# Altium integrated library Silicon Labs Automotive & Industrial MCUs.IntLib: 240 symbols (part 5 of 8)
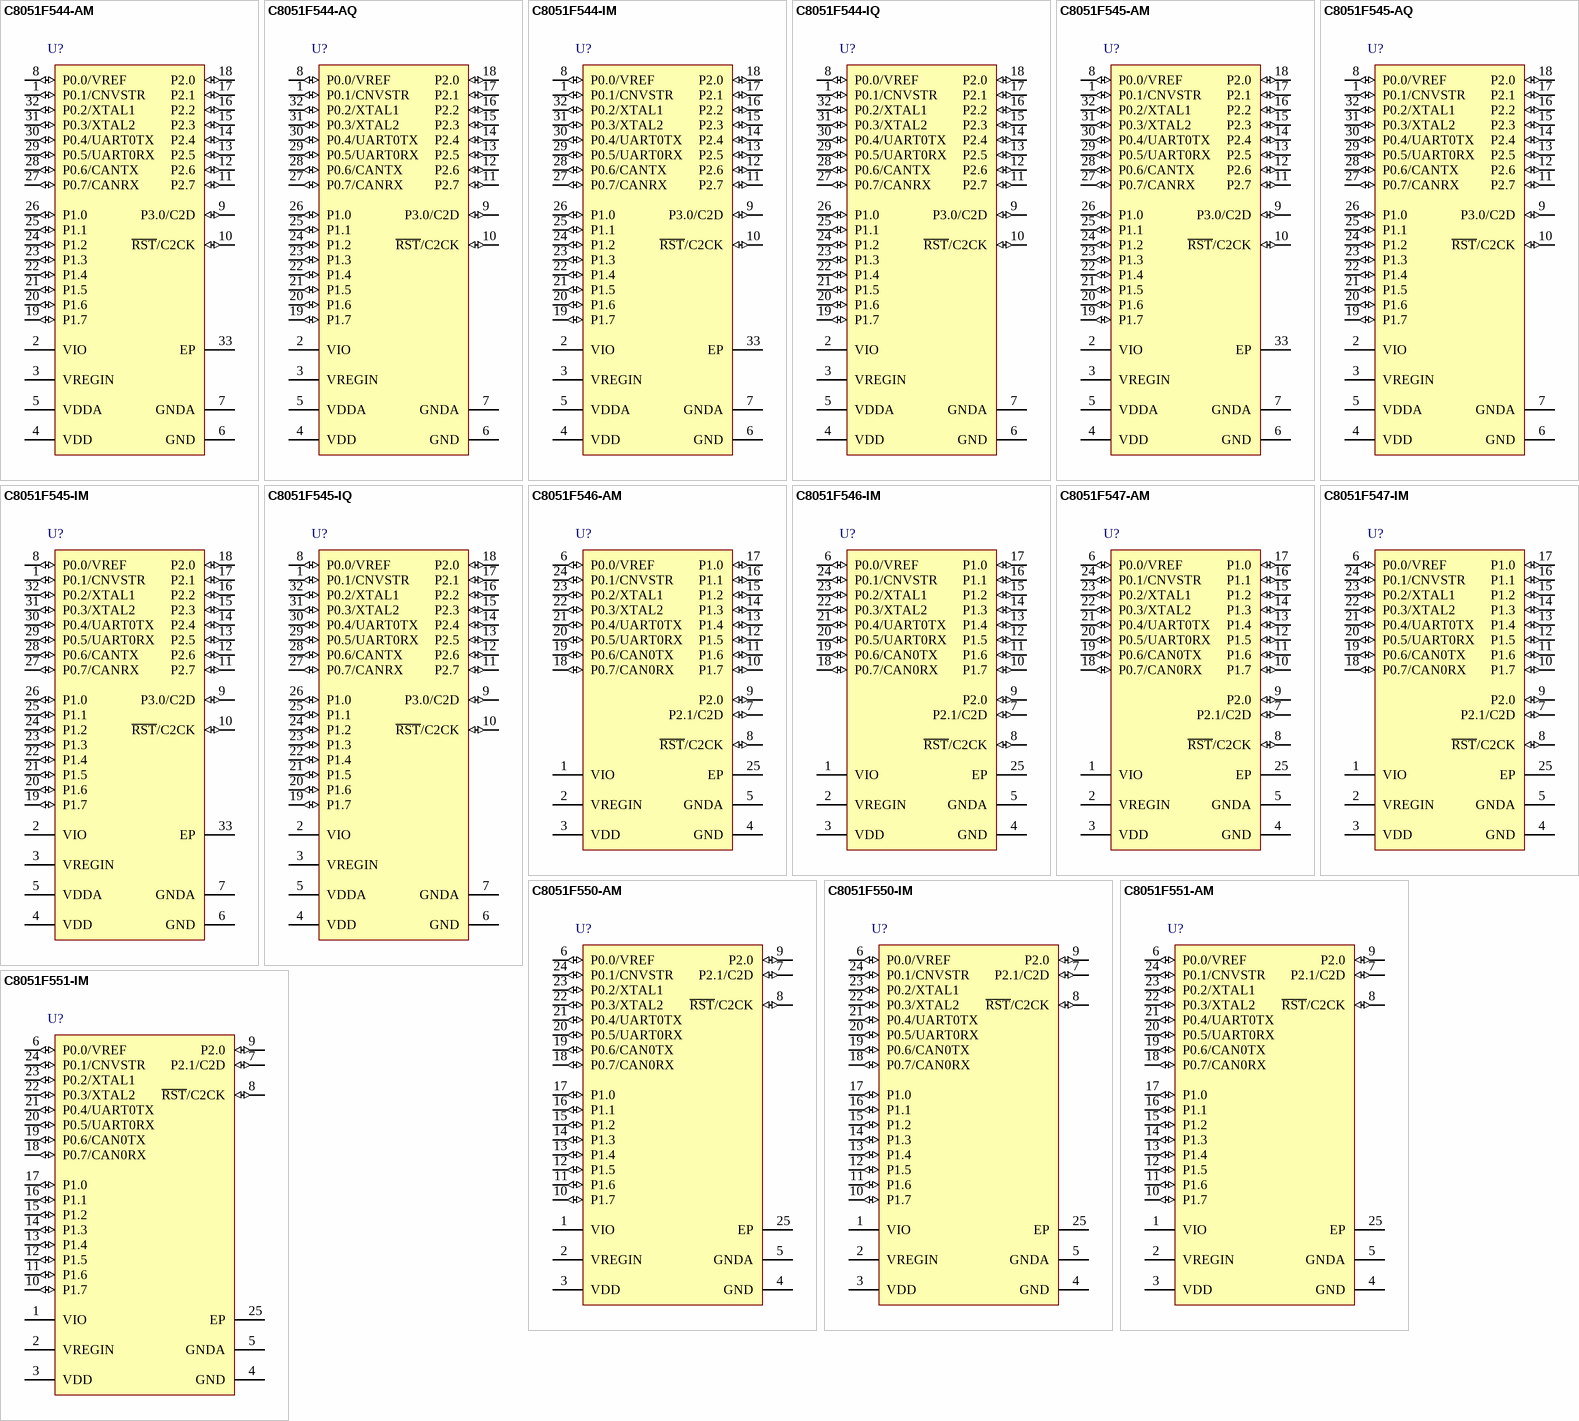
[diagram p17: symbols C8051F544-AM to C8051F551-IM]

## C8051F545-AQ
designator U?
Mixed Signal 8KB Flash ISP MCU, 1280B RAM, 25 I/Os, 12-Bit 25 Channel ADC, SPI, 32-Pin QFP, Automotive Grade; Manufacturer: Silicon Labs; PartNumber: C8051F545-AQ; DatasheetVersion: rev1.1, Apr-2011; PackageVersion: 2007; PackageReference: LQFP-32; PackageDescription: 32-Pin Thin Quad Flat Pack, 7 x 7 x 1.4 mm Body, 0.8 mm Pitch; ComponentLink1Description: Manufacturer URL; ComponentLink1URL: http://www.silabs.com; ComponentLink2Description: Datasheet; ComponentLink2URL: http://www.silabs.com/Support%20Documents/TechnicalDocs/C8051F54x.pdf
footprint LQFP-32_N (Thin QFP, 32-Leads, Body 7x7mm, Pitch 0.8mm, IPC Medium Density)
footprint LQFP-32_L (Thin QFP, 32-Leads, Body 7x7mm, Pitch 0.8mm, IPC High Density)
footprint LQFP-32_M (Thin QFP, 32-Leads, Body 7x7mm, Pitch 0.8mm, IPC Low Density)
pins: 1 P0.1/CNVSTR (io), 2 VIO (power), 3 VREGIN (power), 4 VDD (power), 5 VDDA (power), 6 GND (power), 7 GNDA (power), 8 P0.0/VREF (io), 9 P3.0/C2D (io), 10 ~{RST}/C2CK (io), 11 P2.7 (io), 12 P2.6 (io), 13 P2.5 (io), 14 P2.4 (io), 15 P2.3 (io), 16 P2.2 (io), 17 P2.1 (io), 18 P2.0 (io), 19 P1.7 (io), 20 P1.6 (io), 21 P1.5 (io), 22 P1.4 (io), 23 P1.3 (io), 24 P1.2 (io), 25 P1.1 (io), 26 P1.0 (io), 27 P0.7/CANRX (io), 28 P0.6/CANTX (io), 29 P0.5/UART0RX (io), 30 P0.4/UART0TX (io), 31 P0.3/XTAL2 (io), 32 P0.2/XTAL1 (io)

## C8051F545-IM
designator U?
Mixed Signal 8KB Flash ISP MCU, 1280B RAM, 25 I/Os, 12-Bit 25 Channel ADC, I2C, 32-Pin QFN, Industrial Grade; Manufacturer: Silicon Labs; PartNumber: C8051F545-IM; DatasheetVersion: rev1.1, Apr-2011; PackageVersion: 2011; PackageReference: QFN-32; PackageDescription: 32-Pin Quad Flat No-Lead, 5 x 5 x 0.9 mm Body, 0.5 mm Pitch; Supplier 1: Digi-Key; Supplier Part Number 1: 336-1679-5-ND; Supplier 2: Mouser; Supplier Part Number 2: 634-C8051F545-IM; Code_JEDEC: MO-220-VHHD; ComponentLink1Description: Manufacturer URL; ComponentLink1URL: http://www.silabs.com; ComponentLink2Description: Datasheet; ComponentLink2URL: http://www.silabs.com/Support%20Documents/TechnicalDocs/C8051F54x.pdf
footprint QFN-32_V (QFN, 32-Leads, Body 5x5mm, Pitch 0.5mm, Thermal Pad 3.3x3.3mm, Silicon Labs Recommended)
pins: 1 P0.1/CNVSTR (io), 2 VIO (power), 3 VREGIN (power), 4 VDD (power), 5 VDDA (power), 6 GND (power), 7 GNDA (power), 8 P0.0/VREF (io), 9 P3.0/C2D (io), 10 ~{RST}/C2CK (io), 11 P2.7 (io), 12 P2.6 (io), 13 P2.5 (io), 14 P2.4 (io), 15 P2.3 (io), 16 P2.2 (io), 17 P2.1 (io), 18 P2.0 (io), 19 P1.7 (io), 20 P1.6 (io), 21 P1.5 (io), 22 P1.4 (io), 23 P1.3 (io), 24 P1.2 (io), 25 P1.1 (io), 26 P1.0 (io), 27 P0.7/CANRX (io), 28 P0.6/CANTX (io), 29 P0.5/UART0RX (io), 30 P0.4/UART0TX (io), 31 P0.3/XTAL2 (io), 32 P0.2/XTAL1 (io), 33 EP (power)

## C8051F545-IQ
designator U?
Mixed Signal 8KB Flash ISP MCU, 1280B RAM, 25 I/Os, 12-Bit 25 Channel ADC, I2C, 32-Pin QFP, Industrial Grade; Manufacturer: Silicon Labs; PartNumber: C8051F545-IQ; DatasheetVersion: rev1.1, Apr-2011; PackageVersion: 2007; PackageReference: LQFP-32; PackageDescription: 32-Pin Thin Quad Flat Pack, 7 x 7 x 1.4 mm Body, 0.8 mm Pitch; Supplier 1: Digi-Key; Supplier Part Number 1: 336-1680-ND; Supplier 2: Mouser; Supplier Part Number 2: 634-C8051F545-IQ; ComponentLink1Description: Manufacturer URL; ComponentLink1URL: http://www.silabs.com; ComponentLink2Description: Datasheet; ComponentLink2URL: http://www.silabs.com/Support%20Documents/TechnicalDocs/C8051F54x.pdf
footprint LQFP-32_N (Thin QFP, 32-Leads, Body 7x7mm, Pitch 0.8mm, IPC Medium Density)
footprint LQFP-32_L (Thin QFP, 32-Leads, Body 7x7mm, Pitch 0.8mm, IPC High Density)
footprint LQFP-32_M (Thin QFP, 32-Leads, Body 7x7mm, Pitch 0.8mm, IPC Low Density)
pins: 1 P0.1/CNVSTR (io), 2 VIO (power), 3 VREGIN (power), 4 VDD (power), 5 VDDA (power), 6 GND (power), 7 GNDA (power), 8 P0.0/VREF (io), 9 P3.0/C2D (io), 10 ~{RST}/C2CK (io), 11 P2.7 (io), 12 P2.6 (io), 13 P2.5 (io), 14 P2.4 (io), 15 P2.3 (io), 16 P2.2 (io), 17 P2.1 (io), 18 P2.0 (io), 19 P1.7 (io), 20 P1.6 (io), 21 P1.5 (io), 22 P1.4 (io), 23 P1.3 (io), 24 P1.2 (io), 25 P1.1 (io), 26 P1.0 (io), 27 P0.7/CANRX (io), 28 P0.6/CANTX (io), 29 P0.5/UART0RX (io), 30 P0.4/UART0TX (io), 31 P0.3/XTAL2 (io), 32 P0.2/XTAL1 (io)

## C8051F546-AM
designator U?
Mixed Signal 8KB Flash ISP MCU, 1280B RAM, 18 I/Os, 12-Bit 18 Channel ADC, LIN 2.1, 24-Pin QFN, Automotive Grade; Manufacturer: Silicon Labs; PartNumber: C8051F546-AM; DatasheetVersion: rev1.1, Apr-2011; PackageVersion: 2011; PackageReference: QFN-24; PackageDescription: 24-Pin Quad Flat No-Lead, 4 x 4 x 0.75 mm Body, 0.5 mm Pitch; Code_JEDEC: MO-220-WGGD; ComponentLink1Description: Manufacturer URL; ComponentLink1URL: http://www.silabs.com; ComponentLink2Description: Datasheet; ComponentLink2URL: http://www.silabs.com/Support%20Documents/TechnicalDocs/C8051F54x.pdf
footprint QFN-24_V (QFN, 24-Leads, Body 4x4mm, Pitch 0.5mm, Thermal Pad 2.75x2.75mm, Silicon Labs Recommended)
pins: 1 VIO (power), 2 VREGIN (power), 3 VDD (power), 4 GND (power), 5 GNDA (power), 6 P0.0/VREF (io), 7 P2.1/C2D (io), 8 ~{RST}/C2CK (io), 9 P2.0 (io), 10 P1.7 (io), 11 P1.6 (io), 12 P1.5 (io), 13 P1.4 (io), 14 P1.3 (io), 15 P1.2 (io), 16 P1.1 (io), 17 P1.0 (io), 18 P0.7/CAN0RX (io), 19 P0.6/CAN0TX (io), 20 P0.5/UART0RX (io), 21 P0.4/UART0TX (io), 22 P0.3/XTAL2 (io), 23 P0.2/XTAL1 (io), 24 P0.1/CNVSTR (io), 25 EP (power)

## C8051F546-IM
designator U?
Mixed Signal 8KB Flash ISP MCU, 1280B RAM, 18 I/Os, 12-Bit 18 Channel ADC, I2C, LIN 2.1, 24-Pin QFN, Industrial Grade; Manufacturer: Silicon Labs; PartNumber: C8051F546-IM; DatasheetVersion: rev1.1, Apr-2011; PackageVersion: 2011; PackageReference: QFN-24; PackageDescription: 24-Pin Quad Flat No-Lead, 4 x 4 x 0.75 mm Body, 0.5 mm Pitch; Supplier 1: Digi-Key; Supplier Part Number 1: 336-1681-5-ND; Supplier 2: Mouser; Supplier Part Number 2: 634-C8051F546-IM; Code_JEDEC: MO-220-WGGD; ComponentLink1Description: Manufacturer URL; ComponentLink1URL: http://www.silabs.com; ComponentLink2Description: Datasheet; ComponentLink2URL: http://www.silabs.com/Support%20Documents/TechnicalDocs/C8051F54x.pdf
footprint QFN-24_V (QFN, 24-Leads, Body 4x4mm, Pitch 0.5mm, Thermal Pad 2.75x2.75mm, Silicon Labs Recommended)
pins: 1 VIO (power), 2 VREGIN (power), 3 VDD (power), 4 GND (power), 5 GNDA (power), 6 P0.0/VREF (io), 7 P2.1/C2D (io), 8 ~{RST}/C2CK (io), 9 P2.0 (io), 10 P1.7 (io), 11 P1.6 (io), 12 P1.5 (io), 13 P1.4 (io), 14 P1.3 (io), 15 P1.2 (io), 16 P1.1 (io), 17 P1.0 (io), 18 P0.7/CAN0RX (io), 19 P0.6/CAN0TX (io), 20 P0.5/UART0RX (io), 21 P0.4/UART0TX (io), 22 P0.3/XTAL2 (io), 23 P0.2/XTAL1 (io), 24 P0.1/CNVSTR (io), 25 EP (power)

## C8051F547-AM
designator U?
Mixed Signal 8KB Flash ISP MCU, 1280B RAM, 18 I/Os, 12-Bit 18 Channel ADC, SPI, 24-Pin QFN, Automotive Grade; Manufacturer: Silicon Labs; PartNumber: C8051F547-AM; DatasheetVersion: rev1.1, Apr-2011; PackageVersion: 2011; PackageReference: QFN-24; PackageDescription: 24-Pin Quad Flat No-Lead, 4 x 4 x 0.75 mm Body, 0.5 mm Pitch; Code_JEDEC: MO-220-WGGD; ComponentLink1Description: Manufacturer URL; ComponentLink1URL: http://www.silabs.com; ComponentLink2Description: Datasheet; ComponentLink2URL: http://www.silabs.com/Support%20Documents/TechnicalDocs/C8051F54x.pdf
footprint QFN-24_V (QFN, 24-Leads, Body 4x4mm, Pitch 0.5mm, Thermal Pad 2.75x2.75mm, Silicon Labs Recommended)
pins: 1 VIO (power), 2 VREGIN (power), 3 VDD (power), 4 GND (power), 5 GNDA (power), 6 P0.0/VREF (io), 7 P2.1/C2D (io), 8 ~{RST}/C2CK (io), 9 P2.0 (io), 10 P1.7 (io), 11 P1.6 (io), 12 P1.5 (io), 13 P1.4 (io), 14 P1.3 (io), 15 P1.2 (io), 16 P1.1 (io), 17 P1.0 (io), 18 P0.7/CAN0RX (io), 19 P0.6/CAN0TX (io), 20 P0.5/UART0RX (io), 21 P0.4/UART0TX (io), 22 P0.3/XTAL2 (io), 23 P0.2/XTAL1 (io), 24 P0.1/CNVSTR (io), 25 EP (power)

## C8051F547-IM
designator U?
Mixed Signal 8KB Flash ISP MCU, 1280B RAM, 18 I/Os, 12-Bit 18 Channel ADC, I2C, 24-Pin QFN, Industrial Grade; Manufacturer: Silicon Labs; PartNumber: C8051F547-IM; DatasheetVersion: rev1.1, Apr-2011; PackageVersion: 2011; PackageReference: QFN-24; PackageDescription: 24-Pin Quad Flat No-Lead, 4 x 4 x 0.75 mm Body, 0.5 mm Pitch; Supplier 1: Digi-Key; Supplier Part Number 1: 336-1682-5-ND; Supplier 2: Mouser; Supplier Part Number 2: 634-C8051F547-IM; Code_JEDEC: MO-220-WGGD; ComponentLink1Description: Manufacturer URL; ComponentLink1URL: http://www.silabs.com; ComponentLink2Description: Datasheet; ComponentLink2URL: http://www.silabs.com/Support%20Documents/TechnicalDocs/C8051F54x.pdf
footprint QFN-24_V (QFN, 24-Leads, Body 4x4mm, Pitch 0.5mm, Thermal Pad 2.75x2.75mm, Silicon Labs Recommended)
pins: 1 VIO (power), 2 VREGIN (power), 3 VDD (power), 4 GND (power), 5 GNDA (power), 6 P0.0/VREF (io), 7 P2.1/C2D (io), 8 ~{RST}/C2CK (io), 9 P2.0 (io), 10 P1.7 (io), 11 P1.6 (io), 12 P1.5 (io), 13 P1.4 (io), 14 P1.3 (io), 15 P1.2 (io), 16 P1.1 (io), 17 P1.0 (io), 18 P0.7/CAN0RX (io), 19 P0.6/CAN0TX (io), 20 P0.5/UART0RX (io), 21 P0.4/UART0TX (io), 22 P0.3/XTAL2 (io), 23 P0.2/XTAL1 (io), 24 P0.1/CNVSTR (io), 25 EP (power)

## C8051F550-AM
designator U?
Mixed Signal 32KB Flash ISP MCU, 2304B RAM, 18 I/Os, 12-Bit 18 Channel ADC, CAN 2.0, LIN 2.1, 24-Pin QFN, Automotive Grade; Manufacturer: Silicon Labs; PartNumber: C8051F550-AM; DatasheetVersion: rev1.1, 2011; PackageVersion: 2011; PackageReference: QFN-24; PackageDescription: 24-Pin Quad Flat No-Lead, 4 x 4 x 0.75 mm Body, 0.5 mm Pitch; Code_JEDEC: MO-220-WGGD; ComponentLink1Description: Manufacturer URL; ComponentLink1URL: http://www.silabs.com; ComponentLink2Description: Datasheet; ComponentLink2URL: http://www.silabs.com/Support%20Documents/TechnicalDocs/C8051F55x-F56x-F57x.pdf
footprint QFN-24_V (QFN, 24-Leads, Body 4x4mm, Pitch 0.5mm, Thermal Pad 2.75x2.75mm, Silicon Labs Recommended)
pins: 1 VIO (power), 2 VREGIN (power), 3 VDD (power), 4 GND (power), 5 GNDA (power), 6 P0.0/VREF (io), 7 P2.1/C2D (io), 8 ~{RST}/C2CK (io), 9 P2.0 (io), 10 P1.7 (io), 11 P1.6 (io), 12 P1.5 (io), 13 P1.4 (io), 14 P1.3 (io), 15 P1.2 (io), 16 P1.1 (io), 17 P1.0 (io), 18 P0.7/CAN0RX (io), 19 P0.6/CAN0TX (io), 20 P0.5/UART0RX (io), 21 P0.4/UART0TX (io), 22 P0.3/XTAL2 (io), 23 P0.2/XTAL1 (io), 24 P0.1/CNVSTR (io), 25 EP (power)

## C8051F550-IM
designator U?
Mixed Signal 32KB Flash ISP MCU, 2304B RAM, 18 I/Os, 12-Bit 18 Channel ADC, CAN 2.0, LIN 2.1, 24-Pin QFN, Industrial Grade; Manufacturer: Silicon Labs; PartNumber: C8051F550-IM; DatasheetVersion: rev1.1, 2011; PackageVersion: 2011; PackageReference: QFN-24; PackageDescription: 24-Pin Quad Flat No-Lead, 4 x 4 x 0.75 mm Body, 0.5 mm Pitch; Supplier 1: Digi-Key; Supplier Part Number 1: 336-1683-5-ND; Supplier 2: Mouser; Supplier Part Number 2: 634-C8051F550-IM; Code_JEDEC: MO-220-WGGD; ComponentLink1Description: Manufacturer URL; ComponentLink1URL: http://www.silabs.com; ComponentLink2Description: Datasheet; ComponentLink2URL: http://www.silabs.com/Support%20Documents/TechnicalDocs/C8051F55x-F56x-F57x.pdf
footprint QFN-24_V (QFN, 24-Leads, Body 4x4mm, Pitch 0.5mm, Thermal Pad 2.75x2.75mm, Silicon Labs Recommended)
pins: 1 VIO (power), 2 VREGIN (power), 3 VDD (power), 4 GND (power), 5 GNDA (power), 6 P0.0/VREF (io), 7 P2.1/C2D (io), 8 ~{RST}/C2CK (io), 9 P2.0 (io), 10 P1.7 (io), 11 P1.6 (io), 12 P1.5 (io), 13 P1.4 (io), 14 P1.3 (io), 15 P1.2 (io), 16 P1.1 (io), 17 P1.0 (io), 18 P0.7/CAN0RX (io), 19 P0.6/CAN0TX (io), 20 P0.5/UART0RX (io), 21 P0.4/UART0TX (io), 22 P0.3/XTAL2 (io), 23 P0.2/XTAL1 (io), 24 P0.1/CNVSTR (io), 25 EP (power)

## C8051F551-AM
designator U?
Mixed Signal 32KB Flash ISP MCU, 2304B RAM, 18 I/Os, 12-Bit 18 Channel ADC, CAN 2.0, 24-Pin QFN, Automotive Grade; Manufacturer: Silicon Labs; PartNumber: C8051F551-AM; DatasheetVersion: rev1.1, 2011; PackageVersion: 2011; PackageReference: QFN-24; PackageDescription: 24-Pin Quad Flat No-Lead, 4 x 4 x 0.75 mm Body, 0.5 mm Pitch; Code_JEDEC: MO-220-WGGD; ComponentLink1Description: Manufacturer URL; ComponentLink1URL: http://www.silabs.com; ComponentLink2Description: Datasheet; ComponentLink2URL: http://www.silabs.com/Support%20Documents/TechnicalDocs/C8051F55x-F56x-F57x.pdf
footprint QFN-24_V (QFN, 24-Leads, Body 4x4mm, Pitch 0.5mm, Thermal Pad 2.75x2.75mm, Silicon Labs Recommended)
pins: 1 VIO (power), 2 VREGIN (power), 3 VDD (power), 4 GND (power), 5 GNDA (power), 6 P0.0/VREF (io), 7 P2.1/C2D (io), 8 ~{RST}/C2CK (io), 9 P2.0 (io), 10 P1.7 (io), 11 P1.6 (io), 12 P1.5 (io), 13 P1.4 (io), 14 P1.3 (io), 15 P1.2 (io), 16 P1.1 (io), 17 P1.0 (io), 18 P0.7/CAN0RX (io), 19 P0.6/CAN0TX (io), 20 P0.5/UART0RX (io), 21 P0.4/UART0TX (io), 22 P0.3/XTAL2 (io), 23 P0.2/XTAL1 (io), 24 P0.1/CNVSTR (io), 25 EP (power)

## C8051F551-IM
designator U?
Mixed Signal 32KB Flash ISP MCU, 2304B RAM, 18 I/Os, 12-Bit 18 Channel ADC, CAN 2.0, 24-Pin QFN, Industrial Grade; Manufacturer: Silicon Labs; PartNumber: C8051F551-IM; DatasheetVersion: rev1.1, 2011; PackageVersion: 2011; PackageReference: QFN-24; PackageDescription: 24-Pin Quad Flat No-Lead, 4 x 4 x 0.75 mm Body, 0.5 mm Pitch; Supplier 1: Digi-Key; Supplier Part Number 1: 336-1684-5-ND; Supplier 2: Mouser; Supplier Part Number 2: 634-C8051F551-IM; Code_JEDEC: MO-220-WGGD; ComponentLink1Description: Manufacturer URL; ComponentLink1URL: http://www.silabs.com; ComponentLink2Description: Datasheet; ComponentLink2URL: http://www.silabs.com/Support%20Documents/TechnicalDocs/C8051F55x-F56x-F57x.pdf
footprint QFN-24_V (QFN, 24-Leads, Body 4x4mm, Pitch 0.5mm, Thermal Pad 2.75x2.75mm, Silicon Labs Recommended)
pins: 1 VIO (power), 2 VREGIN (power), 3 VDD (power), 4 GND (power), 5 GNDA (power), 6 P0.0/VREF (io), 7 P2.1/C2D (io), 8 ~{RST}/C2CK (io), 9 P2.0 (io), 10 P1.7 (io), 11 P1.6 (io), 12 P1.5 (io), 13 P1.4 (io), 14 P1.3 (io), 15 P1.2 (io), 16 P1.1 (io), 17 P1.0 (io), 18 P0.7/CAN0RX (io), 19 P0.6/CAN0TX (io), 20 P0.5/UART0RX (io), 21 P0.4/UART0TX (io), 22 P0.3/XTAL2 (io), 23 P0.2/XTAL1 (io), 24 P0.1/CNVSTR (io), 25 EP (power)

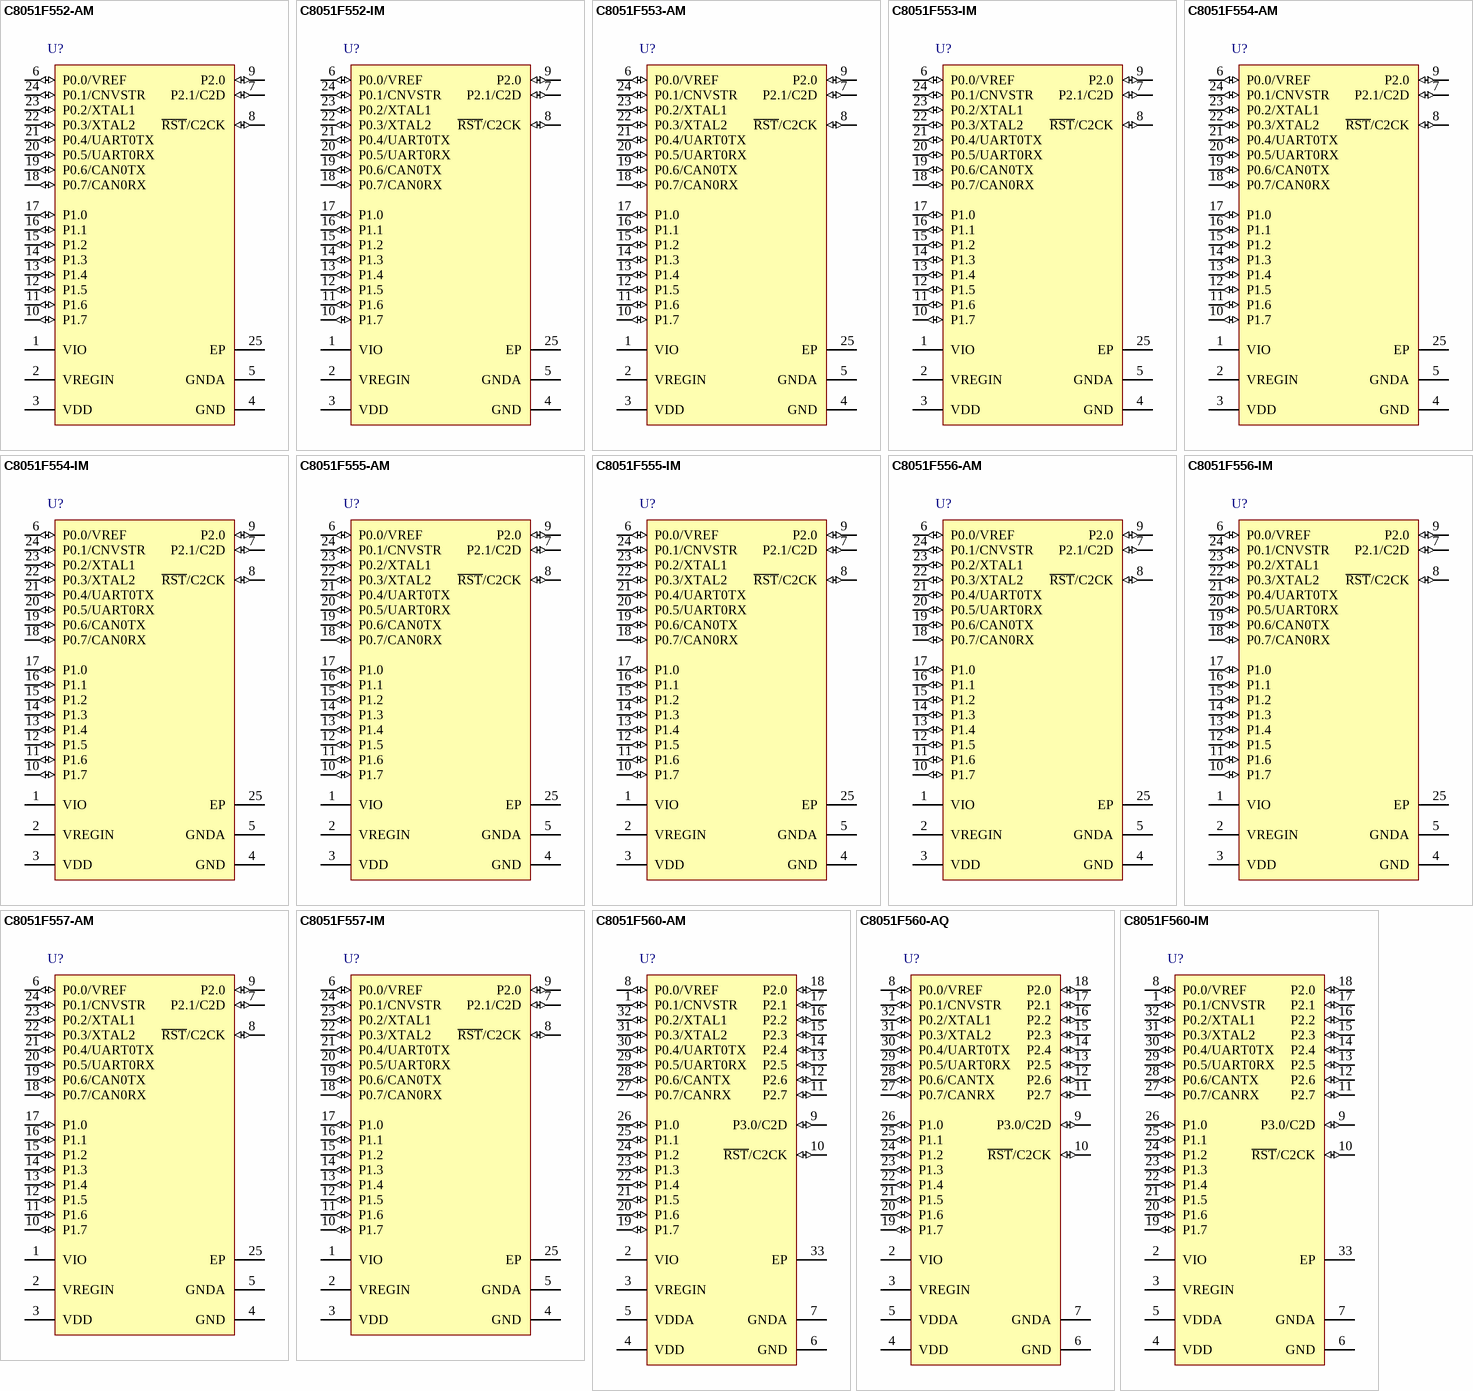
[diagram p7: symbols C8051F552-AM to C8051F560-IM]

## C8051F552-AM
designator U?
Mixed Signal 32KB Flash ISP MCU, 2304B RAM, 18 I/Os, 12-Bit 18 Channel ADC, LIN 2.1, 24-Pin QFN, Automotive Grade; Manufacturer: Silicon Labs; PartNumber: C8051F552-AM; DatasheetVersion: rev1.1, 2011; PackageVersion: 2011; PackageReference: QFN-24; PackageDescription: 24-Pin Quad Flat No-Lead, 4 x 4 x 0.75 mm Body, 0.5 mm Pitch; Code_JEDEC: MO-220-WGGD; ComponentLink1Description: Manufacturer URL; ComponentLink1URL: http://www.silabs.com; ComponentLink2Description: Datasheet; ComponentLink2URL: http://www.silabs.com/Support%20Documents/TechnicalDocs/C8051F55x-F56x-F57x.pdf
footprint QFN-24_V (QFN, 24-Leads, Body 4x4mm, Pitch 0.5mm, Thermal Pad 2.75x2.75mm, Silicon Labs Recommended)
pins: 1 VIO (power), 2 VREGIN (power), 3 VDD (power), 4 GND (power), 5 GNDA (power), 6 P0.0/VREF (io), 7 P2.1/C2D (io), 8 ~{RST}/C2CK (io), 9 P2.0 (io), 10 P1.7 (io), 11 P1.6 (io), 12 P1.5 (io), 13 P1.4 (io), 14 P1.3 (io), 15 P1.2 (io), 16 P1.1 (io), 17 P1.0 (io), 18 P0.7/CAN0RX (io), 19 P0.6/CAN0TX (io), 20 P0.5/UART0RX (io), 21 P0.4/UART0TX (io), 22 P0.3/XTAL2 (io), 23 P0.2/XTAL1 (io), 24 P0.1/CNVSTR (io), 25 EP (power)

## C8051F552-IM
designator U?
Mixed Signal 32KB Flash ISP MCU, 2304B RAM, 18 I/Os, 12-Bit 18 Channel ADC, I2C, LIN 2.1, 24-Pin QFN, Industrial Grade; Manufacturer: Silicon Labs; PartNumber: C8051F552-IM; DatasheetVersion: rev1.1, 2011; PackageVersion: 2011; PackageReference: QFN-24; PackageDescription: 24-Pin Quad Flat No-Lead, 4 x 4 x 0.75 mm Body, 0.5 mm Pitch; Supplier 1: Digi-Key; Supplier Part Number 1: 336-1685-5-ND; Supplier 2: Mouser; Supplier Part Number 2: 634-C8051F552-IM; Code_JEDEC: MO-220-WGGD; ComponentLink1Description: Manufacturer URL; ComponentLink1URL: http://www.silabs.com; ComponentLink2Description: Datasheet; ComponentLink2URL: http://www.silabs.com/Support%20Documents/TechnicalDocs/C8051F55x-F56x-F57x.pdf
footprint QFN-24_V (QFN, 24-Leads, Body 4x4mm, Pitch 0.5mm, Thermal Pad 2.75x2.75mm, Silicon Labs Recommended)
pins: 1 VIO (power), 2 VREGIN (power), 3 VDD (power), 4 GND (power), 5 GNDA (power), 6 P0.0/VREF (io), 7 P2.1/C2D (io), 8 ~{RST}/C2CK (io), 9 P2.0 (io), 10 P1.7 (io), 11 P1.6 (io), 12 P1.5 (io), 13 P1.4 (io), 14 P1.3 (io), 15 P1.2 (io), 16 P1.1 (io), 17 P1.0 (io), 18 P0.7/CAN0RX (io), 19 P0.6/CAN0TX (io), 20 P0.5/UART0RX (io), 21 P0.4/UART0TX (io), 22 P0.3/XTAL2 (io), 23 P0.2/XTAL1 (io), 24 P0.1/CNVSTR (io), 25 EP (power)

## C8051F553-AM
designator U?
Mixed Signal 32KB Flash ISP MCU, 2304B RAM, 18 I/Os, 12-Bit 18 Channel ADC, SPI, 24-Pin QFN, Automotive Grade; Manufacturer: Silicon Labs; PartNumber: C8051F553-AM; DatasheetVersion: rev1.1, 2011; PackageVersion: 2011; PackageReference: QFN-24; PackageDescription: 24-Pin Quad Flat No-Lead, 4 x 4 x 0.75 mm Body, 0.5 mm Pitch; Code_JEDEC: MO-220-WGGD; ComponentLink1Description: Manufacturer URL; ComponentLink1URL: http://www.silabs.com; ComponentLink2Description: Datasheet; ComponentLink2URL: http://www.silabs.com/Support%20Documents/TechnicalDocs/C8051F55x-F56x-F57x.pdf
footprint QFN-24_V (QFN, 24-Leads, Body 4x4mm, Pitch 0.5mm, Thermal Pad 2.75x2.75mm, Silicon Labs Recommended)
pins: 1 VIO (power), 2 VREGIN (power), 3 VDD (power), 4 GND (power), 5 GNDA (power), 6 P0.0/VREF (io), 7 P2.1/C2D (io), 8 ~{RST}/C2CK (io), 9 P2.0 (io), 10 P1.7 (io), 11 P1.6 (io), 12 P1.5 (io), 13 P1.4 (io), 14 P1.3 (io), 15 P1.2 (io), 16 P1.1 (io), 17 P1.0 (io), 18 P0.7/CAN0RX (io), 19 P0.6/CAN0TX (io), 20 P0.5/UART0RX (io), 21 P0.4/UART0TX (io), 22 P0.3/XTAL2 (io), 23 P0.2/XTAL1 (io), 24 P0.1/CNVSTR (io), 25 EP (power)

## C8051F553-IM
designator U?
Mixed Signal 32KB Flash ISP MCU, 2304B RAM, 18 I/Os, 12-Bit 18 Channel ADC, I2C, 24-Pin QFN, Industrial Grade; Manufacturer: Silicon Labs; PartNumber: C8051F553-IM; DatasheetVersion: rev1.1, 2011; PackageVersion: 2011; PackageReference: QFN-24; PackageDescription: 24-Pin Quad Flat No-Lead, 4 x 4 x 0.75 mm Body, 0.5 mm Pitch; Supplier 1: Digi-Key; Supplier Part Number 1: 336-1686-5-ND; Supplier 2: Mouser; Supplier Part Number 2: 634-C8051F553-IM; Code_JEDEC: MO-220-WGGD; ComponentLink1Description: Manufacturer URL; ComponentLink1URL: http://www.silabs.com; ComponentLink2Description: Datasheet; ComponentLink2URL: http://www.silabs.com/Support%20Documents/TechnicalDocs/C8051F55x-F56x-F57x.pdf
footprint QFN-24_V (QFN, 24-Leads, Body 4x4mm, Pitch 0.5mm, Thermal Pad 2.75x2.75mm, Silicon Labs Recommended)
pins: 1 VIO (power), 2 VREGIN (power), 3 VDD (power), 4 GND (power), 5 GNDA (power), 6 P0.0/VREF (io), 7 P2.1/C2D (io), 8 ~{RST}/C2CK (io), 9 P2.0 (io), 10 P1.7 (io), 11 P1.6 (io), 12 P1.5 (io), 13 P1.4 (io), 14 P1.3 (io), 15 P1.2 (io), 16 P1.1 (io), 17 P1.0 (io), 18 P0.7/CAN0RX (io), 19 P0.6/CAN0TX (io), 20 P0.5/UART0RX (io), 21 P0.4/UART0TX (io), 22 P0.3/XTAL2 (io), 23 P0.2/XTAL1 (io), 24 P0.1/CNVSTR (io), 25 EP (power)

## C8051F554-AM
designator U?
Mixed Signal 16KB Flash ISP MCU, 2304B RAM, 18 I/Os, 12-Bit 18 Channel ADC, CAN 2.0, LIN 2.1, 24-Pin QFN, Automotive Grade; Manufacturer: Silicon Labs; PartNumber: C8051F554-AM; DatasheetVersion: rev1.1, 2011; PackageVersion: 2011; PackageReference: QFN-24; PackageDescription: 24-Pin Quad Flat No-Lead, 4 x 4 x 0.75 mm Body, 0.5 mm Pitch; Code_JEDEC: MO-220-WGGD; ComponentLink1Description: Manufacturer URL; ComponentLink1URL: http://www.silabs.com; ComponentLink2Description: Datasheet; ComponentLink2URL: http://www.silabs.com/Support%20Documents/TechnicalDocs/C8051F55x-F56x-F57x.pdf
footprint QFN-24_V (QFN, 24-Leads, Body 4x4mm, Pitch 0.5mm, Thermal Pad 2.75x2.75mm, Silicon Labs Recommended)
pins: 1 VIO (power), 2 VREGIN (power), 3 VDD (power), 4 GND (power), 5 GNDA (power), 6 P0.0/VREF (io), 7 P2.1/C2D (io), 8 ~{RST}/C2CK (io), 9 P2.0 (io), 10 P1.7 (io), 11 P1.6 (io), 12 P1.5 (io), 13 P1.4 (io), 14 P1.3 (io), 15 P1.2 (io), 16 P1.1 (io), 17 P1.0 (io), 18 P0.7/CAN0RX (io), 19 P0.6/CAN0TX (io), 20 P0.5/UART0RX (io), 21 P0.4/UART0TX (io), 22 P0.3/XTAL2 (io), 23 P0.2/XTAL1 (io), 24 P0.1/CNVSTR (io), 25 EP (power)

## C8051F554-IM
designator U?
Mixed Signal 16KB Flash ISP MCU, 2304B RAM, 18 I/Os, 12-Bit 18 Channel ADC, CAN 2.0, LIN 2.1, 24-Pin QFN, Industrial Grade; Manufacturer: Silicon Labs; PartNumber: C8051F554-IM; DatasheetVersion: rev1.1, 2011; PackageVersion: 2011; PackageReference: QFN-24; PackageDescription: 24-Pin Quad Flat No-Lead, 4 x 4 x 0.75 mm Body, 0.5 mm Pitch; Supplier 1: Digi-Key; Supplier Part Number 1: 336-1687-5-ND; Supplier 2: Mouser; Supplier Part Number 2: 634-C8051F554-IM; Code_JEDEC: MO-220-WGGD; ComponentLink1Description: Manufacturer URL; ComponentLink1URL: http://www.silabs.com; ComponentLink2Description: Datasheet; ComponentLink2URL: http://www.silabs.com/Support%20Documents/TechnicalDocs/C8051F55x-F56x-F57x.pdf
footprint QFN-24_V (QFN, 24-Leads, Body 4x4mm, Pitch 0.5mm, Thermal Pad 2.75x2.75mm, Silicon Labs Recommended)
pins: 1 VIO (power), 2 VREGIN (power), 3 VDD (power), 4 GND (power), 5 GNDA (power), 6 P0.0/VREF (io), 7 P2.1/C2D (io), 8 ~{RST}/C2CK (io), 9 P2.0 (io), 10 P1.7 (io), 11 P1.6 (io), 12 P1.5 (io), 13 P1.4 (io), 14 P1.3 (io), 15 P1.2 (io), 16 P1.1 (io), 17 P1.0 (io), 18 P0.7/CAN0RX (io), 19 P0.6/CAN0TX (io), 20 P0.5/UART0RX (io), 21 P0.4/UART0TX (io), 22 P0.3/XTAL2 (io), 23 P0.2/XTAL1 (io), 24 P0.1/CNVSTR (io), 25 EP (power)

## C8051F555-AM
designator U?
Mixed Signal 16KB Flash ISP MCU, 2304B RAM, 18 I/Os, 12-Bit 18 Channel ADC, CAN 2.0, 24-Pin QFN, Automotive Grade; Manufacturer: Silicon Labs; PartNumber: C8051F555-AM; DatasheetVersion: rev1.1, 2011; PackageVersion: 2011; PackageReference: QFN-24; PackageDescription: 24-Pin Quad Flat No-Lead, 4 x 4 x 0.75 mm Body, 0.5 mm Pitch; Code_JEDEC: MO-220-WGGD; ComponentLink1Description: Manufacturer URL; ComponentLink1URL: http://www.silabs.com; ComponentLink2Description: Datasheet; ComponentLink2URL: http://www.silabs.com/Support%20Documents/TechnicalDocs/C8051F55x-F56x-F57x.pdf
footprint QFN-24_V (QFN, 24-Leads, Body 4x4mm, Pitch 0.5mm, Thermal Pad 2.75x2.75mm, Silicon Labs Recommended)
pins: 1 VIO (power), 2 VREGIN (power), 3 VDD (power), 4 GND (power), 5 GNDA (power), 6 P0.0/VREF (io), 7 P2.1/C2D (io), 8 ~{RST}/C2CK (io), 9 P2.0 (io), 10 P1.7 (io), 11 P1.6 (io), 12 P1.5 (io), 13 P1.4 (io), 14 P1.3 (io), 15 P1.2 (io), 16 P1.1 (io), 17 P1.0 (io), 18 P0.7/CAN0RX (io), 19 P0.6/CAN0TX (io), 20 P0.5/UART0RX (io), 21 P0.4/UART0TX (io), 22 P0.3/XTAL2 (io), 23 P0.2/XTAL1 (io), 24 P0.1/CNVSTR (io), 25 EP (power)

## C8051F555-IM
designator U?
Mixed Signal 16KB Flash ISP MCU, 2304B RAM, 18 I/Os, 12-Bit 18 Channel ADC, CAN 2.0, 24-Pin QFN, Industrial Grade; Manufacturer: Silicon Labs; PartNumber: C8051F555-IM; DatasheetVersion: rev1.1, 2011; PackageVersion: 2011; PackageReference: QFN-24; PackageDescription: 24-Pin Quad Flat No-Lead, 4 x 4 x 0.75 mm Body, 0.5 mm Pitch; Supplier 1: Digi-Key; Supplier Part Number 1: 336-1688-5-ND; Supplier 2: Mouser; Supplier Part Number 2: 634-C8051F555-IM; Code_JEDEC: MO-220-WGGD; ComponentLink1Description: Manufacturer URL; ComponentLink1URL: http://www.silabs.com; ComponentLink2Description: Datasheet; ComponentLink2URL: http://www.silabs.com/Support%20Documents/TechnicalDocs/C8051F55x-F56x-F57x.pdf
footprint QFN-24_V (QFN, 24-Leads, Body 4x4mm, Pitch 0.5mm, Thermal Pad 2.75x2.75mm, Silicon Labs Recommended)
pins: 1 VIO (power), 2 VREGIN (power), 3 VDD (power), 4 GND (power), 5 GNDA (power), 6 P0.0/VREF (io), 7 P2.1/C2D (io), 8 ~{RST}/C2CK (io), 9 P2.0 (io), 10 P1.7 (io), 11 P1.6 (io), 12 P1.5 (io), 13 P1.4 (io), 14 P1.3 (io), 15 P1.2 (io), 16 P1.1 (io), 17 P1.0 (io), 18 P0.7/CAN0RX (io), 19 P0.6/CAN0TX (io), 20 P0.5/UART0RX (io), 21 P0.4/UART0TX (io), 22 P0.3/XTAL2 (io), 23 P0.2/XTAL1 (io), 24 P0.1/CNVSTR (io), 25 EP (power)

## C8051F556-AM
designator U?
Mixed Signal 16KB Flash ISP MCU, 2304B RAM, 18 I/Os, 12-Bit 18 Channel ADC, LIN 2.1, 24-Pin QFN, Automotive Grade; Manufacturer: Silicon Labs; PartNumber: C8051F556-AM; DatasheetVersion: rev1.1, 2011; PackageVersion: 2011; PackageReference: QFN-24; PackageDescription: 24-Pin Quad Flat No-Lead, 4 x 4 x 0.75 mm Body, 0.5 mm Pitch; Code_JEDEC: MO-220-WGGD; ComponentLink1Description: Manufacturer URL; ComponentLink1URL: http://www.silabs.com; ComponentLink2Description: Datasheet; ComponentLink2URL: http://www.silabs.com/Support%20Documents/TechnicalDocs/C8051F55x-F56x-F57x.pdf
footprint QFN-24_V (QFN, 24-Leads, Body 4x4mm, Pitch 0.5mm, Thermal Pad 2.75x2.75mm, Silicon Labs Recommended)
pins: 1 VIO (power), 2 VREGIN (power), 3 VDD (power), 4 GND (power), 5 GNDA (power), 6 P0.0/VREF (io), 7 P2.1/C2D (io), 8 ~{RST}/C2CK (io), 9 P2.0 (io), 10 P1.7 (io), 11 P1.6 (io), 12 P1.5 (io), 13 P1.4 (io), 14 P1.3 (io), 15 P1.2 (io), 16 P1.1 (io), 17 P1.0 (io), 18 P0.7/CAN0RX (io), 19 P0.6/CAN0TX (io), 20 P0.5/UART0RX (io), 21 P0.4/UART0TX (io), 22 P0.3/XTAL2 (io), 23 P0.2/XTAL1 (io), 24 P0.1/CNVSTR (io), 25 EP (power)

## C8051F556-IM
designator U?
Mixed Signal 16KB Flash ISP MCU, 2304B RAM, 18 I/Os, 12-Bit 18 Channel ADC, I2C, LIN 2.1, 24-Pin QFN, Industrial Grade; Manufacturer: Silicon Labs; PartNumber: C8051F556-IM; DatasheetVersion: rev1.1, 2011; PackageVersion: 2011; PackageReference: QFN-24; PackageDescription: 24-Pin Quad Flat No-Lead, 4 x 4 x 0.75 mm Body, 0.5 mm Pitch; Supplier 1: Digi-Key; Supplier Part Number 1: 336-1689-5-ND; Supplier 2: Mouser; Supplier Part Number 2: 634-C8051F556-IM; Code_JEDEC: MO-220-WGGD; ComponentLink1Description: Manufacturer URL; ComponentLink1URL: http://www.silabs.com; ComponentLink2Description: Datasheet; ComponentLink2URL: http://www.silabs.com/Support%20Documents/TechnicalDocs/C8051F55x-F56x-F57x.pdf
footprint QFN-24_V (QFN, 24-Leads, Body 4x4mm, Pitch 0.5mm, Thermal Pad 2.75x2.75mm, Silicon Labs Recommended)
pins: 1 VIO (power), 2 VREGIN (power), 3 VDD (power), 4 GND (power), 5 GNDA (power), 6 P0.0/VREF (io), 7 P2.1/C2D (io), 8 ~{RST}/C2CK (io), 9 P2.0 (io), 10 P1.7 (io), 11 P1.6 (io), 12 P1.5 (io), 13 P1.4 (io), 14 P1.3 (io), 15 P1.2 (io), 16 P1.1 (io), 17 P1.0 (io), 18 P0.7/CAN0RX (io), 19 P0.6/CAN0TX (io), 20 P0.5/UART0RX (io), 21 P0.4/UART0TX (io), 22 P0.3/XTAL2 (io), 23 P0.2/XTAL1 (io), 24 P0.1/CNVSTR (io), 25 EP (power)

## C8051F557-AM
designator U?
Mixed Signal 16KB Flash ISP MCU, 2304B RAM, 18 I/Os, 12-Bit 18 Channel ADC, SPI, 24-Pin QFN, Automotive Grade; Manufacturer: Silicon Labs; PartNumber: C8051F557-AM; DatasheetVersion: rev1.1, 2011; PackageVersion: 2011; PackageReference: QFN-24; PackageDescription: 24-Pin Quad Flat No-Lead, 4 x 4 x 0.75 mm Body, 0.5 mm Pitch; Code_JEDEC: MO-220-WGGD; ComponentLink1Description: Manufacturer URL; ComponentLink1URL: http://www.silabs.com; ComponentLink2Description: Datasheet; ComponentLink2URL: http://www.silabs.com/Support%20Documents/TechnicalDocs/C8051F55x-F56x-F57x.pdf
footprint QFN-24_V (QFN, 24-Leads, Body 4x4mm, Pitch 0.5mm, Thermal Pad 2.75x2.75mm, Silicon Labs Recommended)
pins: 1 VIO (power), 2 VREGIN (power), 3 VDD (power), 4 GND (power), 5 GNDA (power), 6 P0.0/VREF (io), 7 P2.1/C2D (io), 8 ~{RST}/C2CK (io), 9 P2.0 (io), 10 P1.7 (io), 11 P1.6 (io), 12 P1.5 (io), 13 P1.4 (io), 14 P1.3 (io), 15 P1.2 (io), 16 P1.1 (io), 17 P1.0 (io), 18 P0.7/CAN0RX (io), 19 P0.6/CAN0TX (io), 20 P0.5/UART0RX (io), 21 P0.4/UART0TX (io), 22 P0.3/XTAL2 (io), 23 P0.2/XTAL1 (io), 24 P0.1/CNVSTR (io), 25 EP (power)

## C8051F557-IM
designator U?
Mixed Signal 16KB Flash ISP MCU, 2304B RAM, 18 I/Os, 12-Bit 18 Channel ADC, I2C, 24-Pin QFN, Industrial Grade; Manufacturer: Silicon Labs; PartNumber: C8051F557-IM; DatasheetVersion: rev1.1, 2011; PackageVersion: 2011; PackageReference: QFN-24; PackageDescription: 24-Pin Quad Flat No-Lead, 4 x 4 x 0.75 mm Body, 0.5 mm Pitch; Supplier 1: Digi-Key; Supplier Part Number 1: 336-1690-5-ND; Supplier 2: Mouser; Supplier Part Number 2: 634-C8051F557-IM; Code_JEDEC: MO-220-WGGD; ComponentLink1Description: Manufacturer URL; ComponentLink1URL: http://www.silabs.com; ComponentLink2Description: Datasheet; ComponentLink2URL: http://www.silabs.com/Support%20Documents/TechnicalDocs/C8051F55x-F56x-F57x.pdf
footprint QFN-24_V (QFN, 24-Leads, Body 4x4mm, Pitch 0.5mm, Thermal Pad 2.75x2.75mm, Silicon Labs Recommended)
pins: 1 VIO (power), 2 VREGIN (power), 3 VDD (power), 4 GND (power), 5 GNDA (power), 6 P0.0/VREF (io), 7 P2.1/C2D (io), 8 ~{RST}/C2CK (io), 9 P2.0 (io), 10 P1.7 (io), 11 P1.6 (io), 12 P1.5 (io), 13 P1.4 (io), 14 P1.3 (io), 15 P1.2 (io), 16 P1.1 (io), 17 P1.0 (io), 18 P0.7/CAN0RX (io), 19 P0.6/CAN0TX (io), 20 P0.5/UART0RX (io), 21 P0.4/UART0TX (io), 22 P0.3/XTAL2 (io), 23 P0.2/XTAL1 (io), 24 P0.1/CNVSTR (io), 25 EP (power)

## C8051F560-AM
designator U?
Mixed Signal 32KB Flash ISP MCU, 2304B RAM, 25 I/Os, 12-Bit 25 Channel ADC, CAN 2.0, LIN 2.1, 32-Pin QFN, Automotive Grade; Manufacturer: Silicon Labs; PartNumber: C8051F560-AM; DatasheetVersion: rev1.1, 2011; PackageVersion: 2011; PackageReference: QFN-32; PackageDescription: 32-Pin Quad Flat No-Lead, 5 x 5 x 0.9 mm Body, 0.5 mm Pitch; Code_JEDEC: MO-220-VHHD; ComponentLink1Description: Manufacturer URL; ComponentLink1URL: http://www.silabs.com; ComponentLink2Description: Datasheet; ComponentLink2URL: http://www.silabs.com/Support%20Documents/TechnicalDocs/C8051F55x-F56x-F57x.pdf
footprint QFN-32_V (QFN, 32-Leads, Body 5x5mm, Pitch 0.5mm, Thermal Pad 3.3x3.3mm, Silicon Labs Recommended)
pins: 1 P0.1/CNVSTR (io), 2 VIO (power), 3 VREGIN (power), 4 VDD (power), 5 VDDA (power), 6 GND (power), 7 GNDA (power), 8 P0.0/VREF (io), 9 P3.0/C2D (io), 10 ~{RST}/C2CK (io), 11 P2.7 (io), 12 P2.6 (io), 13 P2.5 (io), 14 P2.4 (io), 15 P2.3 (io), 16 P2.2 (io), 17 P2.1 (io), 18 P2.0 (io), 19 P1.7 (io), 20 P1.6 (io), 21 P1.5 (io), 22 P1.4 (io), 23 P1.3 (io), 24 P1.2 (io), 25 P1.1 (io), 26 P1.0 (io), 27 P0.7/CANRX (io), 28 P0.6/CANTX (io), 29 P0.5/UART0RX (io), 30 P0.4/UART0TX (io), 31 P0.3/XTAL2 (io), 32 P0.2/XTAL1 (io), 33 EP (power)

## C8051F560-AQ
designator U?
Mixed Signal 32KB Flash ISP MCU, 2304B RAM, 25 I/Os, 12-Bit 25 Channel ADC, CAN 2.0, LIN 2.1, 32-Pin QFP, Automotive Grade; Manufacturer: Silicon Labs; PartNumber: C8051F560-AQ; DatasheetVersion: rev1.1, 2011; PackageVersion: 2007; PackageReference: LQFP-32; PackageDescription: 32-Pin Thin Quad Flat Pack, 7 x 7 x 1.4 mm Body, 0.8 mm Pitch; ComponentLink1Description: Manufacturer URL; ComponentLink1URL: http://www.silabs.com; ComponentLink2Description: Datasheet; ComponentLink2URL: http://www.silabs.com/Support%20Documents/TechnicalDocs/C8051F55x-F56x-F57x.pdf
footprint LQFP-32_N (Thin QFP, 32-Leads, Body 7x7mm, Pitch 0.8mm, IPC Medium Density)
footprint LQFP-32_L (Thin QFP, 32-Leads, Body 7x7mm, Pitch 0.8mm, IPC High Density)
footprint LQFP-32_M (Thin QFP, 32-Leads, Body 7x7mm, Pitch 0.8mm, IPC Low Density)
pins: 1 P0.1/CNVSTR (io), 2 VIO (power), 3 VREGIN (power), 4 VDD (power), 5 VDDA (power), 6 GND (power), 7 GNDA (power), 8 P0.0/VREF (io), 9 P3.0/C2D (io), 10 ~{RST}/C2CK (io), 11 P2.7 (io), 12 P2.6 (io), 13 P2.5 (io), 14 P2.4 (io), 15 P2.3 (io), 16 P2.2 (io), 17 P2.1 (io), 18 P2.0 (io), 19 P1.7 (io), 20 P1.6 (io), 21 P1.5 (io), 22 P1.4 (io), 23 P1.3 (io), 24 P1.2 (io), 25 P1.1 (io), 26 P1.0 (io), 27 P0.7/CANRX (io), 28 P0.6/CANTX (io), 29 P0.5/UART0RX (io), 30 P0.4/UART0TX (io), 31 P0.3/XTAL2 (io), 32 P0.2/XTAL1 (io)

## C8051F560-IM
designator U?
Mixed Signal 32KB Flash ISP MCU, 2304B RAM, 25 I/Os, 12-Bit 25 Channel ADC, CAN 2.0, LIN 2.1, 32-Pin QFN, Industrial Grade; Manufacturer: Silicon Labs; PartNumber: C8051F560-IM; DatasheetVersion: rev1.1, 2011; PackageVersion: 2011; PackageReference: QFN-32; PackageDescription: 32-Pin Quad Flat No-Lead, 5 x 5 x 0.9 mm Body, 0.5 mm Pitch; Supplier 1: Digi-Key; Supplier Part Number 1: 336-1692-5-ND; Supplier 2: Mouser; Supplier Part Number 2: 634-C8051F560-IM; Code_JEDEC: MO-220-VHHD; ComponentLink1Description: Manufacturer URL; ComponentLink1URL: http://www.silabs.com; ComponentLink2Description: Datasheet; ComponentLink2URL: http://www.silabs.com/Support%20Documents/TechnicalDocs/C8051F55x-F56x-F57x.pdf
footprint QFN-32_V (QFN, 32-Leads, Body 5x5mm, Pitch 0.5mm, Thermal Pad 3.3x3.3mm, Silicon Labs Recommended)
pins: 1 P0.1/CNVSTR (io), 2 VIO (power), 3 VREGIN (power), 4 VDD (power), 5 VDDA (power), 6 GND (power), 7 GNDA (power), 8 P0.0/VREF (io), 9 P3.0/C2D (io), 10 ~{RST}/C2CK (io), 11 P2.7 (io), 12 P2.6 (io), 13 P2.5 (io), 14 P2.4 (io), 15 P2.3 (io), 16 P2.2 (io), 17 P2.1 (io), 18 P2.0 (io), 19 P1.7 (io), 20 P1.6 (io), 21 P1.5 (io), 22 P1.4 (io), 23 P1.3 (io), 24 P1.2 (io), 25 P1.1 (io), 26 P1.0 (io), 27 P0.7/CANRX (io), 28 P0.6/CANTX (io), 29 P0.5/UART0RX (io), 30 P0.4/UART0TX (io), 31 P0.3/XTAL2 (io), 32 P0.2/XTAL1 (io), 33 EP (power)

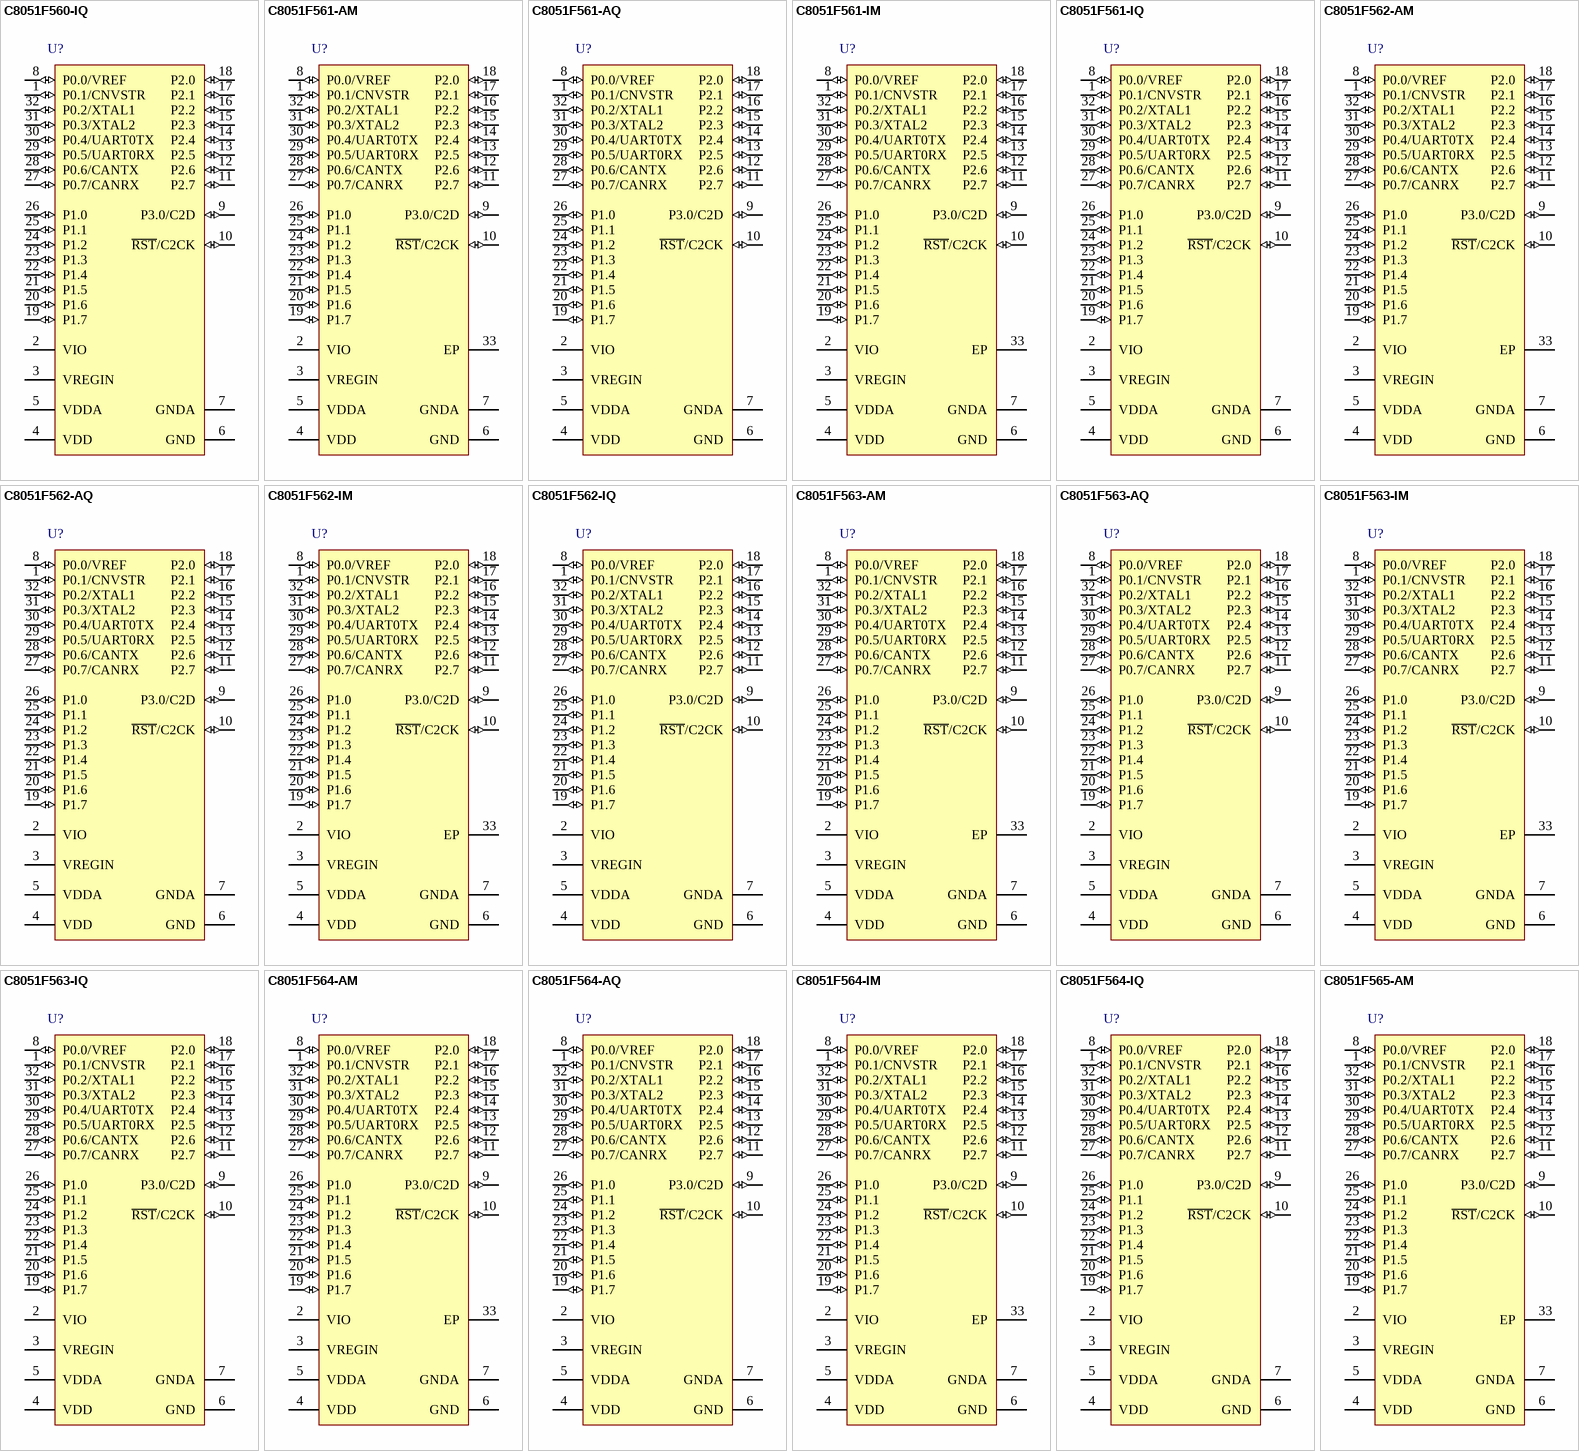
[diagram p8: symbols C8051F560-IQ to C8051F565-AM]

## C8051F560-IQ
designator U?
Mixed Signal 32KB Flash ISP MCU, 2304B RAM, 25 I/Os, 12-Bit 25 Channel ADC, CAN 2.0, LIN 2.1, 32-Pin QFP, Industrial Grade; Manufacturer: Silicon Labs; PartNumber: C8051F560-IQ; DatasheetVersion: rev1.1, 2011; PackageVersion: 2007; PackageReference: LQFP-32; PackageDescription: 32-Pin Thin Quad Flat Pack, 7 x 7 x 1.4 mm Body, 0.8 mm Pitch; Supplier 1: Digi-Key; Supplier Part Number 1: 336-1693-ND; Supplier 2: Mouser; Supplier Part Number 2: 634-C8051F560-IQ; ComponentLink1Description: Manufacturer URL; ComponentLink1URL: http://www.silabs.com; ComponentLink2Description: Datasheet; ComponentLink2URL: http://www.silabs.com/Support%20Documents/TechnicalDocs/C8051F55x-F56x-F57x.pdf
footprint LQFP-32_N (Thin QFP, 32-Leads, Body 7x7mm, Pitch 0.8mm, IPC Medium Density)
footprint LQFP-32_L (Thin QFP, 32-Leads, Body 7x7mm, Pitch 0.8mm, IPC High Density)
footprint LQFP-32_M (Thin QFP, 32-Leads, Body 7x7mm, Pitch 0.8mm, IPC Low Density)
pins: 1 P0.1/CNVSTR (io), 2 VIO (power), 3 VREGIN (power), 4 VDD (power), 5 VDDA (power), 6 GND (power), 7 GNDA (power), 8 P0.0/VREF (io), 9 P3.0/C2D (io), 10 ~{RST}/C2CK (io), 11 P2.7 (io), 12 P2.6 (io), 13 P2.5 (io), 14 P2.4 (io), 15 P2.3 (io), 16 P2.2 (io), 17 P2.1 (io), 18 P2.0 (io), 19 P1.7 (io), 20 P1.6 (io), 21 P1.5 (io), 22 P1.4 (io), 23 P1.3 (io), 24 P1.2 (io), 25 P1.1 (io), 26 P1.0 (io), 27 P0.7/CANRX (io), 28 P0.6/CANTX (io), 29 P0.5/UART0RX (io), 30 P0.4/UART0TX (io), 31 P0.3/XTAL2 (io), 32 P0.2/XTAL1 (io)

## C8051F561-AM
designator U?
Mixed Signal 32KB Flash ISP MCU, 2304B RAM, 25 I/Os, 12-Bit 25 Channel ADC, CAN 2.0, 32-Pin QFN, Automotive Grade; Manufacturer: Silicon Labs; PartNumber: C8051F561-AM; DatasheetVersion: rev1.1, 2011; PackageVersion: 2011; PackageReference: QFN-32; PackageDescription: 32-Pin Quad Flat No-Lead, 5 x 5 x 0.9 mm Body, 0.5 mm Pitch; Code_JEDEC: MO-220-VHHD; ComponentLink1Description: Manufacturer URL; ComponentLink1URL: http://www.silabs.com; ComponentLink2Description: Datasheet; ComponentLink2URL: http://www.silabs.com/Support%20Documents/TechnicalDocs/C8051F55x-F56x-F57x.pdf
footprint QFN-32_V (QFN, 32-Leads, Body 5x5mm, Pitch 0.5mm, Thermal Pad 3.3x3.3mm, Silicon Labs Recommended)
pins: 1 P0.1/CNVSTR (io), 2 VIO (power), 3 VREGIN (power), 4 VDD (power), 5 VDDA (power), 6 GND (power), 7 GNDA (power), 8 P0.0/VREF (io), 9 P3.0/C2D (io), 10 ~{RST}/C2CK (io), 11 P2.7 (io), 12 P2.6 (io), 13 P2.5 (io), 14 P2.4 (io), 15 P2.3 (io), 16 P2.2 (io), 17 P2.1 (io), 18 P2.0 (io), 19 P1.7 (io), 20 P1.6 (io), 21 P1.5 (io), 22 P1.4 (io), 23 P1.3 (io), 24 P1.2 (io), 25 P1.1 (io), 26 P1.0 (io), 27 P0.7/CANRX (io), 28 P0.6/CANTX (io), 29 P0.5/UART0RX (io), 30 P0.4/UART0TX (io), 31 P0.3/XTAL2 (io), 32 P0.2/XTAL1 (io), 33 EP (power)

## C8051F561-AQ
designator U?
Mixed Signal 32KB Flash ISP MCU, 2304B RAM, 25 I/Os, 12-Bit 25 Channel ADC, CAN 2.0, 32-Pin QFP, Automotive Grade; Manufacturer: Silicon Labs; PartNumber: C8051F561-AQ; DatasheetVersion: rev1.1, 2011; PackageVersion: 2007; PackageReference: LQFP-32; PackageDescription: 32-Pin Thin Quad Flat Pack, 7 x 7 x 1.4 mm Body, 0.8 mm Pitch; ComponentLink1Description: Manufacturer URL; ComponentLink1URL: http://www.silabs.com; ComponentLink2Description: Datasheet; ComponentLink2URL: http://www.silabs.com/Support%20Documents/TechnicalDocs/C8051F55x-F56x-F57x.pdf
footprint LQFP-32_N (Thin QFP, 32-Leads, Body 7x7mm, Pitch 0.8mm, IPC Medium Density)
footprint LQFP-32_L (Thin QFP, 32-Leads, Body 7x7mm, Pitch 0.8mm, IPC High Density)
footprint LQFP-32_M (Thin QFP, 32-Leads, Body 7x7mm, Pitch 0.8mm, IPC Low Density)
pins: 1 P0.1/CNVSTR (io), 2 VIO (power), 3 VREGIN (power), 4 VDD (power), 5 VDDA (power), 6 GND (power), 7 GNDA (power), 8 P0.0/VREF (io), 9 P3.0/C2D (io), 10 ~{RST}/C2CK (io), 11 P2.7 (io), 12 P2.6 (io), 13 P2.5 (io), 14 P2.4 (io), 15 P2.3 (io), 16 P2.2 (io), 17 P2.1 (io), 18 P2.0 (io), 19 P1.7 (io), 20 P1.6 (io), 21 P1.5 (io), 22 P1.4 (io), 23 P1.3 (io), 24 P1.2 (io), 25 P1.1 (io), 26 P1.0 (io), 27 P0.7/CANRX (io), 28 P0.6/CANTX (io), 29 P0.5/UART0RX (io), 30 P0.4/UART0TX (io), 31 P0.3/XTAL2 (io), 32 P0.2/XTAL1 (io)

## C8051F561-IM
designator U?
Mixed Signal 32KB Flash ISP MCU, 2304B RAM, 25 I/Os, 12-Bit 25 Channel ADC, CAN 2.0, 32-Pin QFN, Industrial Grade; Manufacturer: Silicon Labs; PartNumber: C8051F561-IM; DatasheetVersion: rev1.1, 2011; PackageVersion: 2011; PackageReference: QFN-32; PackageDescription: 32-Pin Quad Flat No-Lead, 5 x 5 x 0.9 mm Body, 0.5 mm Pitch; Supplier 1: Digi-Key; Supplier Part Number 1: 336-1695-5-ND; Supplier 2: Mouser; Supplier Part Number 2: 634-C8051F561-IM; Code_JEDEC: MO-220-VHHD; ComponentLink1Description: Manufacturer URL; ComponentLink1URL: http://www.silabs.com; ComponentLink2Description: Datasheet; ComponentLink2URL: http://www.silabs.com/Support%20Documents/TechnicalDocs/C8051F55x-F56x-F57x.pdf
footprint QFN-32_V (QFN, 32-Leads, Body 5x5mm, Pitch 0.5mm, Thermal Pad 3.3x3.3mm, Silicon Labs Recommended)
pins: 1 P0.1/CNVSTR (io), 2 VIO (power), 3 VREGIN (power), 4 VDD (power), 5 VDDA (power), 6 GND (power), 7 GNDA (power), 8 P0.0/VREF (io), 9 P3.0/C2D (io), 10 ~{RST}/C2CK (io), 11 P2.7 (io), 12 P2.6 (io), 13 P2.5 (io), 14 P2.4 (io), 15 P2.3 (io), 16 P2.2 (io), 17 P2.1 (io), 18 P2.0 (io), 19 P1.7 (io), 20 P1.6 (io), 21 P1.5 (io), 22 P1.4 (io), 23 P1.3 (io), 24 P1.2 (io), 25 P1.1 (io), 26 P1.0 (io), 27 P0.7/CANRX (io), 28 P0.6/CANTX (io), 29 P0.5/UART0RX (io), 30 P0.4/UART0TX (io), 31 P0.3/XTAL2 (io), 32 P0.2/XTAL1 (io), 33 EP (power)

## C8051F561-IQ
designator U?
Mixed Signal 32KB Flash ISP MCU, 2304B RAM, 25 I/Os, 12-Bit 25 Channel ADC, CAN 2.0, 32-Pin QFP, Industrial Grade; Manufacturer: Silicon Labs; PartNumber: C8051F561-IQ; DatasheetVersion: rev1.1, 2011; PackageVersion: 2007; PackageReference: LQFP-32; PackageDescription: 32-Pin Thin Quad Flat Pack, 7 x 7 x 1.4 mm Body, 0.8 mm Pitch; Supplier 1: Digi-Key; Supplier Part Number 1: 336-1696-ND; Supplier 2: Mouser; Supplier Part Number 2: 634-C8051F561-IQ; ComponentLink1Description: Manufacturer URL; ComponentLink1URL: http://www.silabs.com; ComponentLink2Description: Datasheet; ComponentLink2URL: http://www.silabs.com/Support%20Documents/TechnicalDocs/C8051F55x-F56x-F57x.pdf
footprint LQFP-32_N (Thin QFP, 32-Leads, Body 7x7mm, Pitch 0.8mm, IPC Medium Density)
footprint LQFP-32_L (Thin QFP, 32-Leads, Body 7x7mm, Pitch 0.8mm, IPC High Density)
footprint LQFP-32_M (Thin QFP, 32-Leads, Body 7x7mm, Pitch 0.8mm, IPC Low Density)
pins: 1 P0.1/CNVSTR (io), 2 VIO (power), 3 VREGIN (power), 4 VDD (power), 5 VDDA (power), 6 GND (power), 7 GNDA (power), 8 P0.0/VREF (io), 9 P3.0/C2D (io), 10 ~{RST}/C2CK (io), 11 P2.7 (io), 12 P2.6 (io), 13 P2.5 (io), 14 P2.4 (io), 15 P2.3 (io), 16 P2.2 (io), 17 P2.1 (io), 18 P2.0 (io), 19 P1.7 (io), 20 P1.6 (io), 21 P1.5 (io), 22 P1.4 (io), 23 P1.3 (io), 24 P1.2 (io), 25 P1.1 (io), 26 P1.0 (io), 27 P0.7/CANRX (io), 28 P0.6/CANTX (io), 29 P0.5/UART0RX (io), 30 P0.4/UART0TX (io), 31 P0.3/XTAL2 (io), 32 P0.2/XTAL1 (io)

## C8051F562-AM
designator U?
Mixed Signal 32KB Flash ISP MCU, 2304B RAM, 25 I/Os, 12-Bit 25 Channel ADC, LIN 2.1, 32-Pin QFN, Automotive Grade; Manufacturer: Silicon Labs; PartNumber: C8051F562-AM; DatasheetVersion: rev1.1, 2011; PackageVersion: 2011; PackageReference: QFN-32; PackageDescription: 32-Pin Quad Flat No-Lead, 5 x 5 x 0.9 mm Body, 0.5 mm Pitch; Code_JEDEC: MO-220-VHHD; ComponentLink1Description: Manufacturer URL; ComponentLink1URL: http://www.silabs.com; ComponentLink2Description: Datasheet; ComponentLink2URL: http://www.silabs.com/Support%20Documents/TechnicalDocs/C8051F55x-F56x-F57x.pdf
footprint QFN-32_V (QFN, 32-Leads, Body 5x5mm, Pitch 0.5mm, Thermal Pad 3.3x3.3mm, Silicon Labs Recommended)
pins: 1 P0.1/CNVSTR (io), 2 VIO (power), 3 VREGIN (power), 4 VDD (power), 5 VDDA (power), 6 GND (power), 7 GNDA (power), 8 P0.0/VREF (io), 9 P3.0/C2D (io), 10 ~{RST}/C2CK (io), 11 P2.7 (io), 12 P2.6 (io), 13 P2.5 (io), 14 P2.4 (io), 15 P2.3 (io), 16 P2.2 (io), 17 P2.1 (io), 18 P2.0 (io), 19 P1.7 (io), 20 P1.6 (io), 21 P1.5 (io), 22 P1.4 (io), 23 P1.3 (io), 24 P1.2 (io), 25 P1.1 (io), 26 P1.0 (io), 27 P0.7/CANRX (io), 28 P0.6/CANTX (io), 29 P0.5/UART0RX (io), 30 P0.4/UART0TX (io), 31 P0.3/XTAL2 (io), 32 P0.2/XTAL1 (io), 33 EP (power)

## C8051F562-AQ
designator U?
Mixed Signal 32KB Flash ISP MCU, 2304B RAM, 25 I/Os, 12-Bit 25 Channel ADC, LIN 2.1, 32-Pin QFP, Automotive Grade; Manufacturer: Silicon Labs; PartNumber: C8051F562-AQ; DatasheetVersion: rev1.1, 2011; PackageVersion: 2007; PackageReference: LQFP-32; PackageDescription: 32-Pin Thin Quad Flat Pack, 7 x 7 x 1.4 mm Body, 0.8 mm Pitch; ComponentLink1Description: Manufacturer URL; ComponentLink1URL: http://www.silabs.com; ComponentLink2Description: Datasheet; ComponentLink2URL: http://www.silabs.com/Support%20Documents/TechnicalDocs/C8051F55x-F56x-F57x.pdf
footprint LQFP-32_N (Thin QFP, 32-Leads, Body 7x7mm, Pitch 0.8mm, IPC Medium Density)
footprint LQFP-32_L (Thin QFP, 32-Leads, Body 7x7mm, Pitch 0.8mm, IPC High Density)
footprint LQFP-32_M (Thin QFP, 32-Leads, Body 7x7mm, Pitch 0.8mm, IPC Low Density)
pins: 1 P0.1/CNVSTR (io), 2 VIO (power), 3 VREGIN (power), 4 VDD (power), 5 VDDA (power), 6 GND (power), 7 GNDA (power), 8 P0.0/VREF (io), 9 P3.0/C2D (io), 10 ~{RST}/C2CK (io), 11 P2.7 (io), 12 P2.6 (io), 13 P2.5 (io), 14 P2.4 (io), 15 P2.3 (io), 16 P2.2 (io), 17 P2.1 (io), 18 P2.0 (io), 19 P1.7 (io), 20 P1.6 (io), 21 P1.5 (io), 22 P1.4 (io), 23 P1.3 (io), 24 P1.2 (io), 25 P1.1 (io), 26 P1.0 (io), 27 P0.7/CANRX (io), 28 P0.6/CANTX (io), 29 P0.5/UART0RX (io), 30 P0.4/UART0TX (io), 31 P0.3/XTAL2 (io), 32 P0.2/XTAL1 (io)

## C8051F562-IM
designator U?
Mixed Signal 32KB Flash ISP MCU, 2304B RAM, 25 I/Os, 12-Bit 25 Channel ADC, I2C, LIN 2.1, 32-Pin QFN, Industrial Grade; Manufacturer: Silicon Labs; PartNumber: C8051F562-IM; DatasheetVersion: rev1.1, 2011; PackageVersion: 2011; PackageReference: QFN-32; PackageDescription: 32-Pin Quad Flat No-Lead, 5 x 5 x 0.9 mm Body, 0.5 mm Pitch; Supplier 1: Digi-Key; Supplier Part Number 1: 336-1697-5-ND; Supplier 2: Mouser; Supplier Part Number 2: 634-C8051F562-IM; Code_JEDEC: MO-220-VHHD; ComponentLink1Description: Manufacturer URL; ComponentLink1URL: http://www.silabs.com; ComponentLink2Description: Datasheet; ComponentLink2URL: http://www.silabs.com/Support%20Documents/TechnicalDocs/C8051F55x-F56x-F57x.pdf
footprint QFN-32_V (QFN, 32-Leads, Body 5x5mm, Pitch 0.5mm, Thermal Pad 3.3x3.3mm, Silicon Labs Recommended)
pins: 1 P0.1/CNVSTR (io), 2 VIO (power), 3 VREGIN (power), 4 VDD (power), 5 VDDA (power), 6 GND (power), 7 GNDA (power), 8 P0.0/VREF (io), 9 P3.0/C2D (io), 10 ~{RST}/C2CK (io), 11 P2.7 (io), 12 P2.6 (io), 13 P2.5 (io), 14 P2.4 (io), 15 P2.3 (io), 16 P2.2 (io), 17 P2.1 (io), 18 P2.0 (io), 19 P1.7 (io), 20 P1.6 (io), 21 P1.5 (io), 22 P1.4 (io), 23 P1.3 (io), 24 P1.2 (io), 25 P1.1 (io), 26 P1.0 (io), 27 P0.7/CANRX (io), 28 P0.6/CANTX (io), 29 P0.5/UART0RX (io), 30 P0.4/UART0TX (io), 31 P0.3/XTAL2 (io), 32 P0.2/XTAL1 (io), 33 EP (power)

## C8051F562-IQ
designator U?
Mixed Signal 32KB Flash ISP MCU, 2304B RAM, 25 I/Os, 12-Bit 25 Channel ADC, I2C, LIN 2.1, 32-Pin QFP, Industrial Grade; Manufacturer: Silicon Labs; PartNumber: C8051F562-IQ; DatasheetVersion: rev1.1, 2011; PackageVersion: 2007; PackageReference: LQFP-32; PackageDescription: 32-Pin Thin Quad Flat Pack, 7 x 7 x 1.4 mm Body, 0.8 mm Pitch; Supplier 1: Digi-Key; Supplier Part Number 1: 336-1698-ND; Supplier 2: Mouser; Supplier Part Number 2: 634-C8051F562-IQ; ComponentLink1Description: Manufacturer URL; ComponentLink1URL: http://www.silabs.com; ComponentLink2Description: Datasheet; ComponentLink2URL: http://www.silabs.com/Support%20Documents/TechnicalDocs/C8051F55x-F56x-F57x.pdf
footprint LQFP-32_N (Thin QFP, 32-Leads, Body 7x7mm, Pitch 0.8mm, IPC Medium Density)
footprint LQFP-32_L (Thin QFP, 32-Leads, Body 7x7mm, Pitch 0.8mm, IPC High Density)
footprint LQFP-32_M (Thin QFP, 32-Leads, Body 7x7mm, Pitch 0.8mm, IPC Low Density)
pins: 1 P0.1/CNVSTR (io), 2 VIO (power), 3 VREGIN (power), 4 VDD (power), 5 VDDA (power), 6 GND (power), 7 GNDA (power), 8 P0.0/VREF (io), 9 P3.0/C2D (io), 10 ~{RST}/C2CK (io), 11 P2.7 (io), 12 P2.6 (io), 13 P2.5 (io), 14 P2.4 (io), 15 P2.3 (io), 16 P2.2 (io), 17 P2.1 (io), 18 P2.0 (io), 19 P1.7 (io), 20 P1.6 (io), 21 P1.5 (io), 22 P1.4 (io), 23 P1.3 (io), 24 P1.2 (io), 25 P1.1 (io), 26 P1.0 (io), 27 P0.7/CANRX (io), 28 P0.6/CANTX (io), 29 P0.5/UART0RX (io), 30 P0.4/UART0TX (io), 31 P0.3/XTAL2 (io), 32 P0.2/XTAL1 (io)

## C8051F563-AM
designator U?
Mixed Signal 32KB Flash ISP MCU, 2304B RAM, 25 I/Os, 12-Bit 25 Channel ADC, SPI, 32-Pin QFN, Automotive Grade; Manufacturer: Silicon Labs; PartNumber: C8051F563-AM; DatasheetVersion: rev1.1, 2011; PackageVersion: 2011; PackageReference: QFN-32; PackageDescription: 32-Pin Quad Flat No-Lead, 5 x 5 x 0.9 mm Body, 0.5 mm Pitch; Code_JEDEC: MO-220-VHHD; ComponentLink1Description: Manufacturer URL; ComponentLink1URL: http://www.silabs.com; ComponentLink2Description: Datasheet; ComponentLink2URL: http://www.silabs.com/Support%20Documents/TechnicalDocs/C8051F55x-F56x-F57x.pdf
footprint QFN-32_V (QFN, 32-Leads, Body 5x5mm, Pitch 0.5mm, Thermal Pad 3.3x3.3mm, Silicon Labs Recommended)
pins: 1 P0.1/CNVSTR (io), 2 VIO (power), 3 VREGIN (power), 4 VDD (power), 5 VDDA (power), 6 GND (power), 7 GNDA (power), 8 P0.0/VREF (io), 9 P3.0/C2D (io), 10 ~{RST}/C2CK (io), 11 P2.7 (io), 12 P2.6 (io), 13 P2.5 (io), 14 P2.4 (io), 15 P2.3 (io), 16 P2.2 (io), 17 P2.1 (io), 18 P2.0 (io), 19 P1.7 (io), 20 P1.6 (io), 21 P1.5 (io), 22 P1.4 (io), 23 P1.3 (io), 24 P1.2 (io), 25 P1.1 (io), 26 P1.0 (io), 27 P0.7/CANRX (io), 28 P0.6/CANTX (io), 29 P0.5/UART0RX (io), 30 P0.4/UART0TX (io), 31 P0.3/XTAL2 (io), 32 P0.2/XTAL1 (io), 33 EP (power)

## C8051F563-AQ
designator U?
Mixed Signal 32KB Flash ISP MCU, 2304B RAM, 25 I/Os, 12-Bit 25 Channel ADC, SPI, 32-Pin QFP, Automotive Grade; Manufacturer: Silicon Labs; PartNumber: C8051F563-AQ; DatasheetVersion: rev1.1, 2011; PackageVersion: 2007; PackageReference: LQFP-32; PackageDescription: 32-Pin Thin Quad Flat Pack, 7 x 7 x 1.4 mm Body, 0.8 mm Pitch; ComponentLink1Description: Manufacturer URL; ComponentLink1URL: http://www.silabs.com; ComponentLink2Description: Datasheet; ComponentLink2URL: http://www.silabs.com/Support%20Documents/TechnicalDocs/C8051F55x-F56x-F57x.pdf
footprint LQFP-32_N (Thin QFP, 32-Leads, Body 7x7mm, Pitch 0.8mm, IPC Medium Density)
footprint LQFP-32_L (Thin QFP, 32-Leads, Body 7x7mm, Pitch 0.8mm, IPC High Density)
footprint LQFP-32_M (Thin QFP, 32-Leads, Body 7x7mm, Pitch 0.8mm, IPC Low Density)
pins: 1 P0.1/CNVSTR (io), 2 VIO (power), 3 VREGIN (power), 4 VDD (power), 5 VDDA (power), 6 GND (power), 7 GNDA (power), 8 P0.0/VREF (io), 9 P3.0/C2D (io), 10 ~{RST}/C2CK (io), 11 P2.7 (io), 12 P2.6 (io), 13 P2.5 (io), 14 P2.4 (io), 15 P2.3 (io), 16 P2.2 (io), 17 P2.1 (io), 18 P2.0 (io), 19 P1.7 (io), 20 P1.6 (io), 21 P1.5 (io), 22 P1.4 (io), 23 P1.3 (io), 24 P1.2 (io), 25 P1.1 (io), 26 P1.0 (io), 27 P0.7/CANRX (io), 28 P0.6/CANTX (io), 29 P0.5/UART0RX (io), 30 P0.4/UART0TX (io), 31 P0.3/XTAL2 (io), 32 P0.2/XTAL1 (io)

## C8051F563-IM
designator U?
Mixed Signal 32KB Flash ISP MCU, 2304B RAM, 25 I/Os, 12-Bit 25 Channel ADC, I2C, 32-Pin QFN, Industrial Grade; Manufacturer: Silicon Labs; PartNumber: C8051F563-IM; DatasheetVersion: rev1.1, 2011; PackageVersion: 2011; PackageReference: QFN-32; PackageDescription: 32-Pin Quad Flat No-Lead, 5 x 5 x 0.9 mm Body, 0.5 mm Pitch; Supplier 1: Digi-Key; Supplier Part Number 1: 336-1699-5-ND; Supplier 2: Mouser; Supplier Part Number 2: 634-C8051F563-IM; Code_JEDEC: MO-220-VHHD; ComponentLink1Description: Manufacturer URL; ComponentLink1URL: http://www.silabs.com; ComponentLink2Description: Datasheet; ComponentLink2URL: http://www.silabs.com/Support%20Documents/TechnicalDocs/C8051F55x-F56x-F57x.pdf
footprint QFN-32_V (QFN, 32-Leads, Body 5x5mm, Pitch 0.5mm, Thermal Pad 3.3x3.3mm, Silicon Labs Recommended)
pins: 1 P0.1/CNVSTR (io), 2 VIO (power), 3 VREGIN (power), 4 VDD (power), 5 VDDA (power), 6 GND (power), 7 GNDA (power), 8 P0.0/VREF (io), 9 P3.0/C2D (io), 10 ~{RST}/C2CK (io), 11 P2.7 (io), 12 P2.6 (io), 13 P2.5 (io), 14 P2.4 (io), 15 P2.3 (io), 16 P2.2 (io), 17 P2.1 (io), 18 P2.0 (io), 19 P1.7 (io), 20 P1.6 (io), 21 P1.5 (io), 22 P1.4 (io), 23 P1.3 (io), 24 P1.2 (io), 25 P1.1 (io), 26 P1.0 (io), 27 P0.7/CANRX (io), 28 P0.6/CANTX (io), 29 P0.5/UART0RX (io), 30 P0.4/UART0TX (io), 31 P0.3/XTAL2 (io), 32 P0.2/XTAL1 (io), 33 EP (power)